# Altium schematic symbol library p-mosfet_3.Schlib: 1 symbol
Pins are listed as number, name and electrical type; pins without a type are passive.

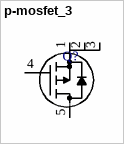
[diagram p0: symbol p-mosfet_3]

## p-mosfet_3
designator Q?  (value not drawn)
P-Channel MOSFET w/ Body Diode 5 terminal
pins: 1 S, 2 S, 3 S, 4 G, 5 D